# EAGLE library part OS096064PH10FC1A10 (library Pictiva)
PictivaTM 1.0 inch 96x64 OLED Display, 65K Colors Display Format: 96 (x3 RGB) Columns x 64 Rows Diagonal: 1.0 inch Pixel Pitch: 0.21 mm x 0.21 mm Active Area: 20.1 (W) X 13.4 (H) mm Module Size: 27.2 (W) X 21.5 (H) X 1.6 (T) mm Viewing Angle: 180° Contrast Ratio: 2000:1 dark ambient Temperature: -30°C to +70°C Operating Voltage:2.4V - 3.5V (Logic), 11V typical (OLED Supply) Power: 0.05 mW (Sleep Mode) Interface: Parallel or Serial, interconnect: COF-ACF attach Driver: SSD1332 Weight: 2.0g nominal
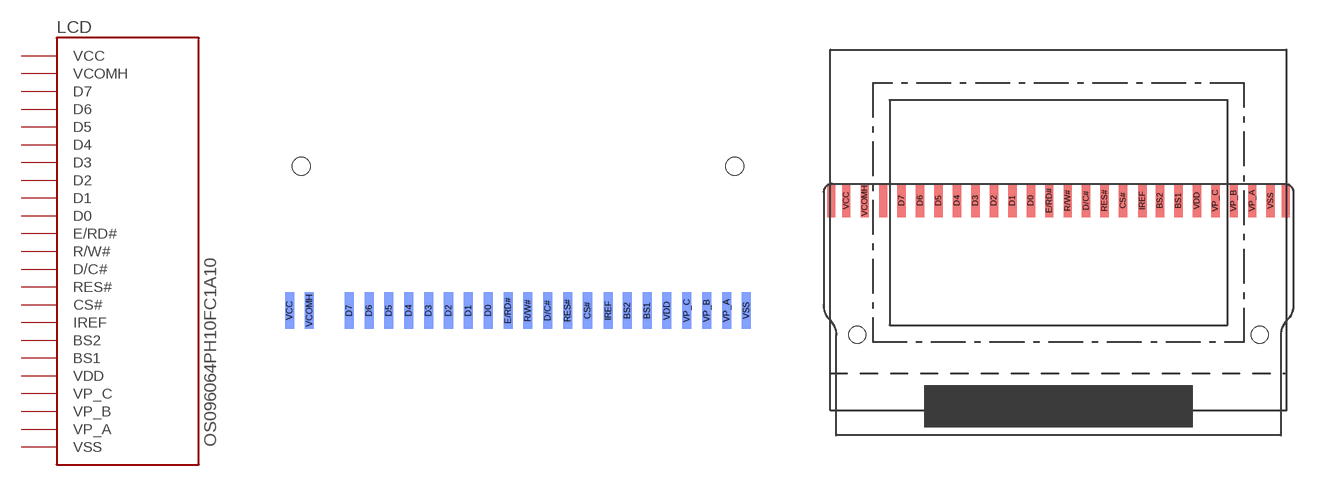
[diagram p0: symbol with the pads of SSD1332; footprints SSD1332, SSD1332GEFALTEN]

Designator prefix LCD

## OS096064PH10FC1A10  [SSD1332]
BS1  BS1
BS2  BS2
CS#  CS#
D0  D0
D1  D1
D2  D2
D3  D3
D4  D4
D5  D5
D6  D6
D7  D7
D/C#  D/C#
E/RD#  E/RD#
IREF  IREF
R/W#  R/W#
RES#  RES#
VCC  VCC
VCOMH  VCOMH
VDD  VDD
VP_A  VP_A
VP_B  VP_B
VP_C  VP_C
VSS  VSS

## OS096064PH10FC1A10GEFALTEN  [SSD1332GEFALTEN]
Pads as for SSD1332

## Footprint SSD1332 (pad centres in mm)
Ohne Sockel/Fassung! Direkt gelötet.
smd 0.5 x 2 bottom: BS1 7.15,1; BS2 6.05,1; CS# 3.85,1; D0 -1.65,1; D1 -2.75,1; D2 -3.85,1; D3 -4.95,1; D4 -6.05,1; D5 -7.15,1; D6 -8.25,1; D7 -9.35,1; D/C# 1.65,1; E/RD# -0.55,1; IREF 5,1; R/W# 0.55,1; RES# 2.75,1; VCC -12.65,1; VCOMH -11.55,1; VDD 8.25,1; VP_A 11.55,1; VP_B 10.45,1; VP_C 9.35,1; VSS 12.65,1
hole 1 at -12,9
hole 1 at 12,9

## Footprint SSD1332GEFALTEN (pad centres in mm)
Ohne Sockel/Fassung! Direkt gelötet.
smd 0.5 x 2: BS1 7.15,-1; BS2 6.05,-1; CS# 3.85,-1; D0 -1.65,-1; D1 -2.75,-1; D2 -3.85,-1; D3 -4.95,-1; D4 -6.05,-1; D5 -7.15,-1; D6 -8.25,-1; D7 -9.35,-1; D/C# 1.65,-1; E/RD# -0.55,-1; IREF 5,-1; R/W# 0.55,-1; RES# 2.75,-1; VCC -12.65,-1; VCOMH -11.55,-1; VDD 8.25,-1; VP_A 11.55,-1; VP_B 10.45,-1; VP_C 9.35,-1; VSS 12.65,-1
hole 1 at 12,-9
hole 1 at -12,-9